# Altium footprint library SMD-RES-39R-5_-1_10W_0603_.PcbLib: 2 footprints
Each footprint in its own frame and in the unit in brackets; x right, y up, seen from the top. Pads: shape width x height; smd on the part's side, far side on the other; paste and mask are expansions set on the pad; w line width, h text height; cw(c..) or ccw(c..) is an arc to the next point about the centre after c.
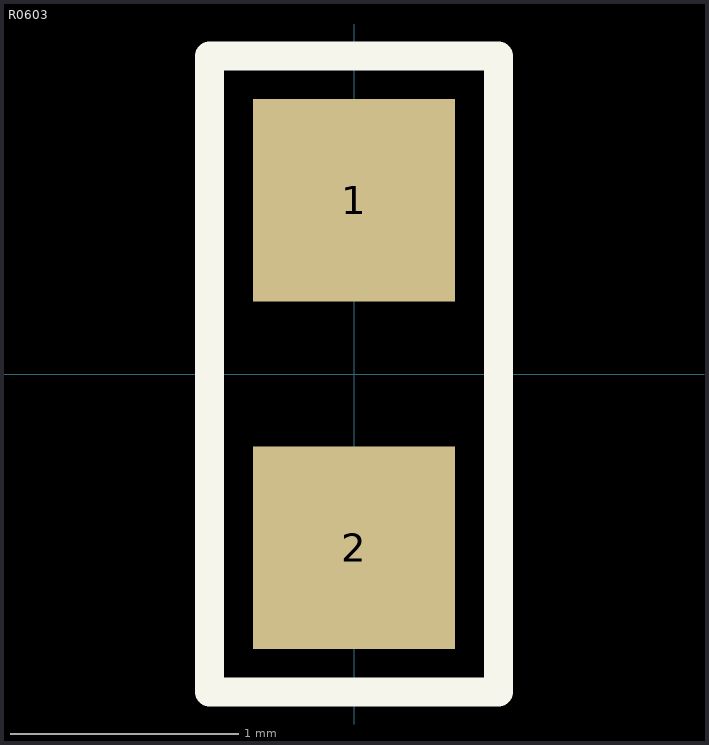
[diagram p0: the footprints below, top view; thin cyan lines are the x and y axes]

## PCBComponent_1 [mil]

## R0603 [mil]
pads (2):
  rect 35x35 smd: 1(0,30) 2(0,-30)
Top Overlay:
  lines w5: -25,-55 -25,55 25,55 25,-55 -25,-55